# Altium schematic symbol library B32320I8207K000.SchLib: 1 symbol
Pins are listed as number, name and electrical type; pins without a type are passive.

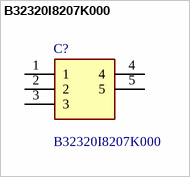
[diagram p0: symbol B32320I8207K000]

## B32320I8207K000
designator C?
AC Film Capacitors incl. Motor Run, 200?F, 800V DC, 60mm (D) x 120mm (H); Manufacturer_Name: TDK; Mouser Part Number: 871-B32320I8207K000; Mouser Price/Stock: https://www.mouser.co.uk/ProductDetail/EPCOS-TDK/B32320I8207K000?qs=ti9wR6LxNKVDH%2F2Xvz2DHw%3D%3D; Manufacturer_Part_Number: B32320I8207K000; Datasheet Link: https://product.tdk.com/system/files/dam/doc/product/capacitor/film/ac-motor/data_sheet/b32320i_series.pdf; Geometry.Height: 120mm
footprint B32320I8207K000
pins: 1, 2, 3, 4, 5